# EAGLE library part NCR-4X20-VFD (library library)
PIN HEADER
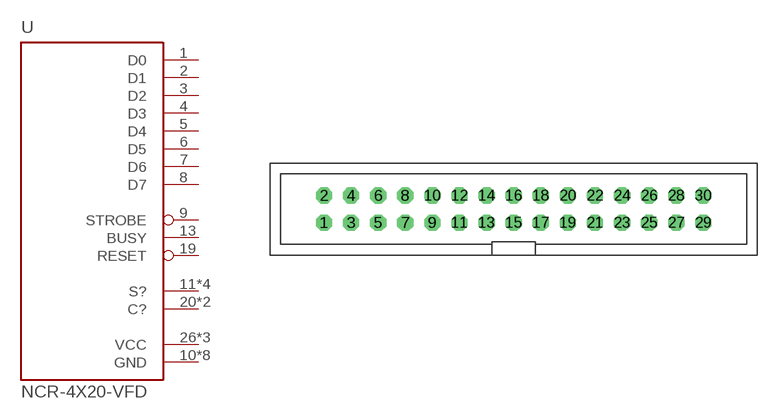
[diagram p0: symbol with the pads of NCR-4X20-VFD; footprint NCR-4X20-VFD]

Designator prefix U

## NCR-4X20-VFD (OC_FARNELL: unknown; OC_NEWARK: unknown)  [NCR-4X20-VFD]
1  D0
2  D1
3  D2
4  D3
5  D4
6  D5
7  D6
8  D7
9  STROBE
10  GND
11  S?
12  GND
13  BUSY
14  GND
15  S?
16  GND
17  S?
18  S?
19  RESET
20  C?
21  C?
22  GND
23  GND
24  GND
25  GND
26  VCC
27  VCC
28  VCC

## Footprint NCR-4X20-VFD (pad centres in mm)
The NCR 7454 / Futaba M204SD01B VFD
drill 1.016 octagon: 1 -20.32,-1.27; 2 -20.32,1.27; 3 -17.78,-1.27; 4 -17.78,1.27; 5 -15.24,-1.27; 6 -15.24,1.27; 7 -12.7,-1.27; 8 -12.7,1.27; 9 -10.16,-1.27; 10 -10.16,1.27; 11 -7.62,-1.27; 12 -7.62,1.27; 13 -5.08,-1.27; 14 -5.08,1.27; 15 -2.54,-1.27; 16 -2.54,1.27; 17 0,-1.27; 18 0,1.27; 19 2.54,-1.27; 20 2.54,1.27; 21 5.08,-1.27; 22 5.08,1.27; 23 7.62,-1.27; 24 7.62,1.27; 25 10.16,-1.27; 26 10.16,1.27; 27 12.7,-1.27; 28 12.7,1.27; 29 15.24,-1.27; 30 15.24,1.27